# Altium footprint library H204_.PcbLib: 39 footprints (part 2 of 3)
Each footprint in its own frame and in the unit in brackets; x right, y up, seen from the top. Pads: shape width x height; smd on the part's side, far side on the other; paste and mask are expansions set on the pad; w line width, h text height; cw(c..) or ccw(c..) is an arc to the next point about the centre after c.
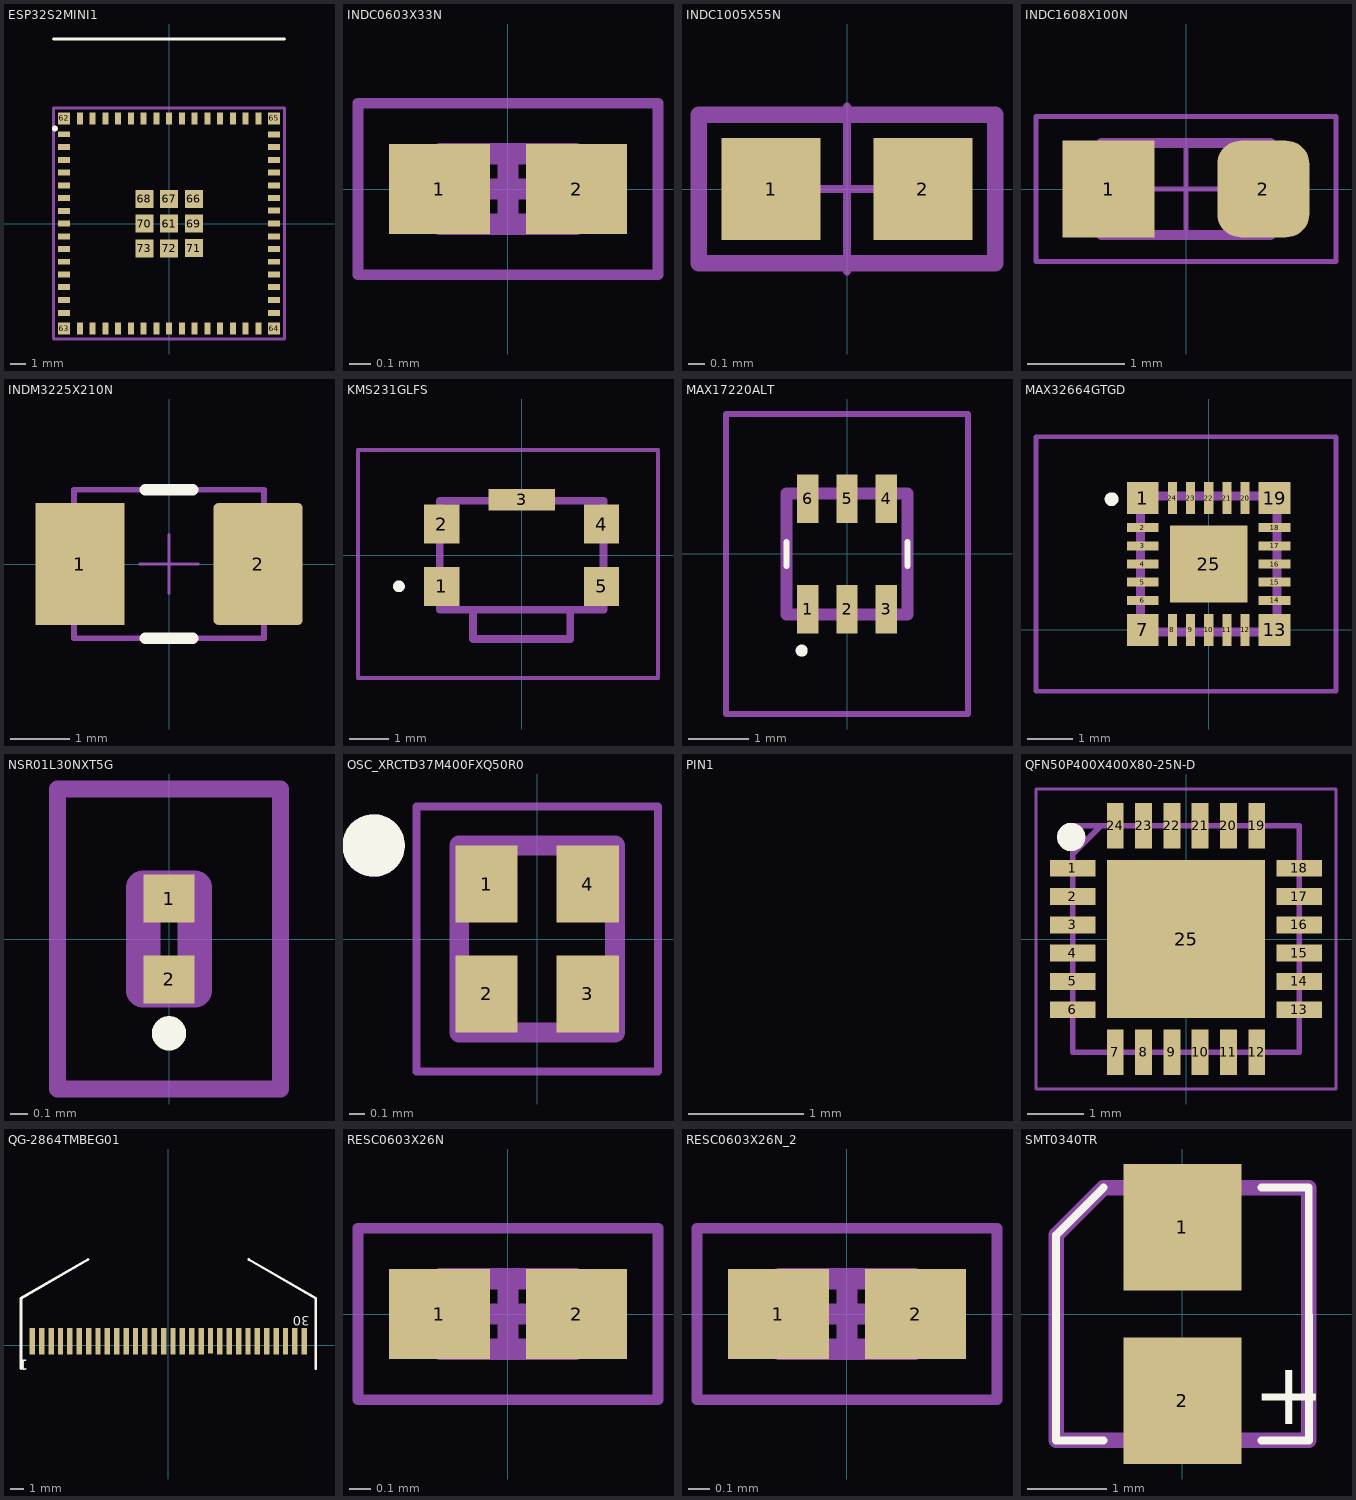
[diagram p1: the footprints below, top view; thin cyan lines are the x and y axes]

## ESP32S2MINI1 [mm]
height 0.9
pads (73):
  rect 0.8x0.4 smd: 1(-7,5.95) 2(-7,5.1) 3(-7,4.25) 4(-7,3.4) 5(-7,2.55) 6(-7,1.7) 7(-7,0.85) 8(-7,0) 9(-7,-0.85) 10(-7,-1.7) 11(-7,-2.55) 12(-7,-3.4) 13(-7,-4.25) 14(-7,-5.1) 15(-7,-5.95) 31(7,-5.95) 32(7,-5.1) 33(7,-4.25) 34(7,-3.4) 35(7,-2.55) 36(7,-1.7) 37(7,-0.85) 38(7,0) 39(7,0.85) 40(7,1.7) 41(7,2.55) 42(7,3.4) 43(7,4.25) 44(7,5.1) 45(7,5.95)
  rect 0.4x0.8 smd: 16(-5.95,-7) 17(-5.1,-7) 18(-4.25,-7) 19(-3.4,-7) 20(-2.55,-7) 21(-1.7,-7) 22(-0.85,-7) 23(0,-7) 24(0.85,-7) 25(1.7,-7) 26(2.55,-7) 27(3.4,-7) 28(4.25,-7) 29(5.1,-7) 30(5.95,-7) 46(5.95,7) 47(5.1,7) 48(4.25,7) 49(3.4,7) 50(2.55,7) 51(1.7,7) 52(0.85,7) 53(0,7) 54(-0.85,7) 55(-1.7,7) 56(-2.55,7) 57(-3.4,7) 58(-4.25,7) 59(-5.1,7) 60(-5.95,7)
  rect 1.2x1.2 smd: 61(0,0) 66(1.65,1.65) 67(0,1.65) 68(-1.65,1.65) 69(1.65,0) 70(-1.65,0) 71(1.65,-1.65) 72(0,-1.65) 73(-1.65,-1.65)
  rect 0.8x0.8 smd: 62(-7,7) 63(-7,-7) 64(7,-7) 65(7,7)
Top Overlay:
  lines w0.2: -7.7,12.3 7.7,12.3 ; -7.723,6.333 cw(c-7.623,6.333) -7.523,6.333 cw(c-7.623,6.333) -7.723,6.333
Mechanical 13:
  lines w0.2: -7.7,-7.7 7.7,-7.7 7.7,7.7 -7.7,7.7 -7.7,-7.7
3D body: height 0.8, standoff 0, extent -7.7,-7.7 7.7,12.3
3D body: height 2.4, standoff 0, extent -7,-7 7,7

## INDC0603X33N [mm] "Chip Inductor, 2-Leads, EIA 0201, Metric 0603, Body 0,60x0,30mm, IPC Medium Density"
height 0.33
pads (2):
  rect 0.47x0.42 smd: 1(-0.32,0) 2(0.32,0)
Mechanical 13:
  lines w0.1: -0.315,-0.165 -0.315,0.165 0.315,0.165 0.315,-0.165 -0.315,-0.165
Mechanical 15:
  lines w0.05: -0.7,-0.4 -0.7,0.4 0.7,0.4 0.7,-0.4 -0.7,-0.4
  lines w0.1: -0.165,0 0.165,0 ; 0,-0.165 0,0.165
3D body: height 0.33, standoff 0, extent -0.165,-0.165 0.165,0.165
3D body: height 0.33, standoff 0, extent -0.315,-0.165 -0.165,0.165
3D body: height 0.33, standoff 0, extent 0.165,-0.165 0.315,0.165

## INDC1005X55N [mm] "Chip Inductor, 2-Leads, EIA 0402, Metric 1005, Body 1x0.5mm, 0402IPC Medium Density"
height 0.55
pads (2):
  rect 0.6x0.62 smd: 1(-0.46,0) 2(0.46,0)
Mechanical 14:
  lines w0.1: -0.9,-0.45 0.9,-0.45 0.9,0.45 -0.9,0.45 -0.9,-0.45
Mechanical 15:
  lines w0.05: -0.5,0 0.5,0 ; 0,-0.5 0,0.5 ; -0.91,-0.46 0.91,-0.46 0.91,0.46 -0.91,0.46 -0.91,-0.46
3D body "INDC1005X55N.stp": height 0.55, standoff 0, extent -0.525,-0.275 0.525,0.275

## INDC1608X100N [mm] "Chip Inductor, 2-Leads, EIA 0603, Metric 1608, Body 1.6x0.8mm, IPC Medium Density"
height 1
pads (2):
  rect 0.95x1 smd: 1(-0.8,0)
  rrect50% 0.95x1 smd: 2(0.8,0)
Mechanical 14:
  lines w0.1: -0.875,-0.475 0.875,-0.475 0.875,0.475 -0.875,0.475 -0.875,-0.475
Mechanical 15:
  lines w0.05: -0.5,0 0.5,0 ; 0,-0.5 0,0.5 ; -1.55,-0.75 1.55,-0.75 1.55,0.75 -1.55,0.75 -1.55,-0.75
3D body "INDC1608X100N.stp": height 1, standoff -0.05, extent -0.875,-0.475 0.875,0.475

## INDM3225X210N [mm] "Inductor, Molded Body; 3.20mm L X 2.50mm W, IPC Medium Density"
height 2.1
pads (2):
  rect 1.5x2.05 smd: 1(-1.5,0)
  rrect10% 1.5x2.05 smd: 2(1.5,0)
Top Overlay:
  lines w0.2: -0.4,-1.25 0.4,-1.25 ; -0.4,1.25 0.4,1.25
Mechanical 14:
  lines w0.1: -1.6,-1.25 -1.6,1.25 1.6,1.25 1.6,-1.25 -1.6,-1.25
Mechanical 15:
  lines w0.05: -0.5,0 0.5,0 ; 0,-0.5 0,0.5
3D body: height 2.7, standoff 0, extent -1.6,-1.35 1.6,1.35
3D body "INDM3225X210N.stp": height 2.1, standoff 0, extent -1.7,-1.35 1.7,1.35

## KMS231GLFS [mm]
height 0.4
pads (5):
  rect 0.9x1 smd: 1(-2.05,-0.8) 2(-2.05,0.8) 4(2.05,0.8) 5(2.05,-0.8)
  rect 1.7x0.55 smd: 3(0,1.425)
Top Overlay:
  lines w0.2: -3.2,-0.8 ccw(c-3.15,-0.8) -3.1,-0.8 ; -3.2,-0.8 cw(c-3.15,-0.8) -3.1,-0.8 ; -3.2,-0.8 ccw(c-3.15,-0.8) -3.1,-0.8
Mechanical 13:
  lines w0.2: -2.1,-1.4 -2.1,1.4 2.1,1.4 2.1,-1.4 -2.1,-1.4 ; -1.25,-2.15 -1.25,-1.4 1.25,-1.4 1.25,-2.15 -1.25,-2.15
Mechanical 15:
  lines w0.1: -4.2,-3.15 -4.2,2.7 3.5,2.7 3.5,-3.15 -4.2,-3.15
3D body "KMS231GLFS.stp": height 1.42, standoff -0.02, extent -2.3,-2.15 2.3,1.4

## MAX17220ALT [mm]
height 0.9
pads (6):
  rect 0.35x0.8 smd: 1(-0.65,-0.915) 2(0,-0.915) 3(0.65,-0.915) 4(0.65,0.915) 5(0,0.915) 6(-0.65,0.915)
Top Overlay:
  lines w0.1: -1,-0.2 -1,0.2 ; 1,-0.2 1,0.2 ; -0.8,-1.6 cw(c-0.75,-1.6) -0.7,-1.6 cw(c-0.75,-1.6) -0.8,-1.6
Mechanical 13:
  lines w0.2: -1,-1 -1,1 1,1 1,-1 -1,-1
Mechanical 15:
  lines w0.1: -2,-2.65 -2,2.315 2,2.315 2,-2.65 -2,-2.65
3D body "MAX17222ELT+.stp": height 0.9, standoff 0, extent -1,-1.28 1,1.28

## MAX32664GTGD [mm]
pads (25):
  rect 0.7x0.7 smd: 1(-1.45,2.9) 7(-1.45,0) 13(1.45,0) 19(1.45,2.9)
  rect 0.7x0.2 smd: 2(-1.45,2.25) 3(-1.45,1.85) 4(-1.45,1.45) 5(-1.45,1.05) 6(-1.45,0.65) 14(1.45,0.65) 15(1.45,1.05) 16(1.45,1.45) 17(1.45,1.85) 18(1.45,2.25)
  rect 0.2x0.7 smd: 8(-0.8,0) 9(-0.4,0) 10(0,0) 11(0.4,0) 12(0.8,0) 20(0.8,2.9) 21(0.4,2.9) 22(0,2.9) 23(-0.4,2.9) 24(-0.8,2.9)
  rect 1.7x1.7 smd: 25(0,1.45)
Top Overlay:
  lines w0.2: -2.188,2.877 ccw(c-2.138,2.877) -2.088,2.877 ; -2.188,2.877 cw(c-2.138,2.877) -2.088,2.877 ; -2.188,2.877 ccw(c-2.138,2.877) -2.088,2.877
Mechanical 13:
  lines w0.2: -1.5,-0.05 -1.5,2.95 1.5,2.95 1.5,-0.05 -1.5,-0.05
Mechanical 15:
  lines w0.1: -3.8,-1.35 -3.8,4.25 2.8,4.25 2.8,-1.35 -3.8,-1.35
3D body "MAX32664GTGD+.stp": height 0.9, standoff 0, extent -1.5,-0.05 1.5,2.95

## NSR01L30NXT5G [mm]
height 0.9
pads (2):
  rect 0.3x0.28 smd: 1(0,0.235) 2(0,-0.235)
Top Overlay:
  lines w0.1: 0,-0.6 cw(c0,-0.55) 0,-0.5 cw(c0,-0.55) 0,-0.6
Mechanical 13:
  lines w0.2: -0.15,-0.3 0.15,-0.3 0.15,0.3 -0.15,0.3 -0.15,-0.3
Mechanical 15:
  lines w0.1: -0.65,-0.875 0.65,-0.875 0.65,0.875 -0.65,0.875 -0.65,-0.875
3D body "NSR01L30NXT5G.stp": height 0.4, standoff 0, extent -0.15,-0.347 0.15,0.347

## OSC_XRCTD37M400FXQ50R0 [mm]
pads (4):
  rect 0.4x0.495 smd: 1(-0.325,0.353) 2(-0.325,-0.353) 3(0.325,-0.353) 4(0.325,0.353)
Top Overlay:
  circle w0.2: c-1.05,0.6 r0.1
Mechanical 13:
  circle w0.2: c-1.05,0.6 r0.1
  lines w0.127: -0.5,-0.6 -0.5,0.6 0.5,0.6 0.5,-0.6 -0.5,-0.6
Mechanical 15:
  lines w0.05: -0.775,-0.85 -0.775,0.85 0.775,0.85 0.775,-0.85 -0.775,-0.85
3D body "XRCTD37M400FXQ50R0--3DModel-STEP-56544.STEP": height 0.3, standoff 0, extent -0.5,-0.6 0.5,0.6

## PIN1 [mm] "Connector; Plug"
height 8
pads (1):
  rect 2.6x1.5 on Mid1: 1(-3.95,1.675)

## QFN50P400X400X80-25N-D [mm]
height 0.9
pads (25):
  rect 0.8x0.3 smd: 1(-2,1.25) 2(-2,0.75) 3(-2,0.25) 4(-2,-0.25) 5(-2,-0.75) 6(-2,-1.25) 13(2,-1.25) 14(2,-0.75) 15(2,-0.25) 16(2,0.25) 17(2,0.75) 18(2,1.25)
  rect 0.3x0.8 smd: 7(-1.25,-2) 8(-0.75,-2) 9(-0.25,-2) 10(0.25,-2) 11(0.75,-2) 12(1.25,-2) 19(1.25,2) 20(0.75,2) 21(0.25,2) 22(-0.25,2) 23(-0.75,2) 24(-1.25,2)
  rect 2.8x2.8 smd: 25(0,0)
Top Overlay:
  circle w0.25: c-2.028,1.802 r0.125
Mechanical 13:
  lines w0.1: -2,1.5 -1.5,2 ; -2,-2 -2,2 2,2 2,-2 -2,-2
Mechanical 15:
  lines w0.05: -2.65,-2.65 -2.65,2.65 2.65,2.65 2.65,-2.65 -2.65,-2.65
3D body "BQ25601DRTWR.stp": height 0.8, standoff 0, extent -2,-2 2,2

## QG-2864TMBEG01 [mm]
height 0.9
pads (30):
  rect 0.4x2 smd: 1(-10.15,0.3) 2(-9.45,0.3) 3(-8.75,0.3) 4(-8.05,0.3) 5(-7.35,0.3) 6(-6.65,0.3) 7(-5.95,0.3) 8(-5.25,0.3) 9(-4.55,0.3) 10(-3.85,0.3) 11(-3.15,0.3) 12(-2.45,0.3) 13(-1.75,0.3) 14(-1.05,0.3) 15(-0.35,0.3) 16(0.35,0.3) 17(1.05,0.3) 18(1.75,0.3) 19(2.45,0.3) 21(3.85,0.3) 22(4.55,0.3) 23(5.25,0.3) 24(5.95,0.3) 25(6.65,0.3) 26(7.35,0.3) 27(8.05,0.3) 28(8.75,0.3) 29(9.45,0.3) 30(10.15,0.3)
  rect 0.4x1.9 smd: 20(3.15,0.35)
Top Overlay:
  lines w0.2: -11,-1.738 -11,3.5 -6,6.4 ; 6,6.4 11,3.5 11,-1.738
  text "1" at -10.475,-1.067 h0.8
  text "30" at 10.55,2.15 h0.7

## RESC0603X26N [mm] "Chip Resistor, EIA 0201, Metric 0603, Body 0,60x0,30mm, IPC Medium Density"
height 0.26
pads (2):
  rect 0.47x0.42 smd: 1(-0.32,0) 2(0.32,0)
Mechanical 13:
  lines w0.1: -0.315,-0.165 0.315,-0.165 0.315,0.165 -0.315,0.165 -0.315,-0.165
Mechanical 15:
  lines w0.05: -0.7,-0.4 0.7,-0.4 0.7,0.4 -0.7,0.4 -0.7,-0.4
  lines w0.1: -0.165,0 0.165,0 ; 0,-0.165 0,0.165
3D body: height 0.26, standoff 0, extent 0.165,-0.165 0.315,0.165
3D body: height 0.26, standoff 0, extent -0.315,-0.165 -0.165,0.165
3D body: height 0.26, standoff 0, extent -0.165,-0.165 0.165,0.165

## RESC0603X26N_2 [mm]
pads (2):
  rect 0.47x0.42 smd: 1(-0.32,0) 2(0.32,0)
Mechanical 13:
  lines w0.1: -0.315,-0.165 -0.315,0.165 0.315,0.165 0.315,-0.165 -0.315,-0.165
Mechanical 15:
  lines w0.05: -0.7,-0.4 -0.7,0.4 0.7,0.4 0.7,-0.4 -0.7,-0.4
  lines w0.1: -0.165,0 0.165,0 ; 0,-0.165 0,0.165
3D body: height 0.26, standoff 0, extent -0.165,-0.165 0.165,0.165
3D body: height 0.26, standoff 0, extent -0.315,-0.165 -0.165,0.165
3D body: height 0.26, standoff 0, extent 0.165,-0.165 0.315,0.165

## SMT0340TR [mm]
height 0.9
pads (2):
  rect 1.5x1.6 smd: 1(0,1.1) 2(0,-1.1)
Top Overlay:
  lines w0.1: -1,-1.6 -1.6,-1.6 -1.6,1 -1,1.6 ; 1,-1.6 1.6,-1.6 1.6,1.6 1,1.6
  text "+" at 0.889,-1.397 h0.8
Mechanical 13:
  lines w0.2: -1.6,-1.6 -1.6,1 -1,1.6 1.6,1.6 1.6,-1.6 -1.6,-1.6
3D body "SMT-0340-T-R.stp": height 2.1, standoff 0, extent -1.6,-1.75 1.6,1.75